# Altium schematic symbol library Schlib1.SchLib: 1 symbol
Pins are listed as number, name and electrical type; pins without a type are passive.

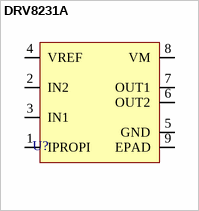
[diagram p0: symbol DRV8231A]

## DRV8231A
designator U?
pins: 1 IPROPI, 2 IN2, 3 IN1, 4 VREF, 5 GND, 6 OUT2, 7 OUT1, 8 VM, 9 EPAD